# Altium footprint library XDAmpPCBLib.PcbLib: 19 footprints (part 1 of 2)
Each footprint in its own frame and in the unit in brackets; x right, y up, seen from the top. Pads: shape width x height; smd on the part's side, far side on the other; paste and mask are expansions set on the pad; w line width, h text height; cw(c..) or ccw(c..) is an arc to the next point about the centre after c.
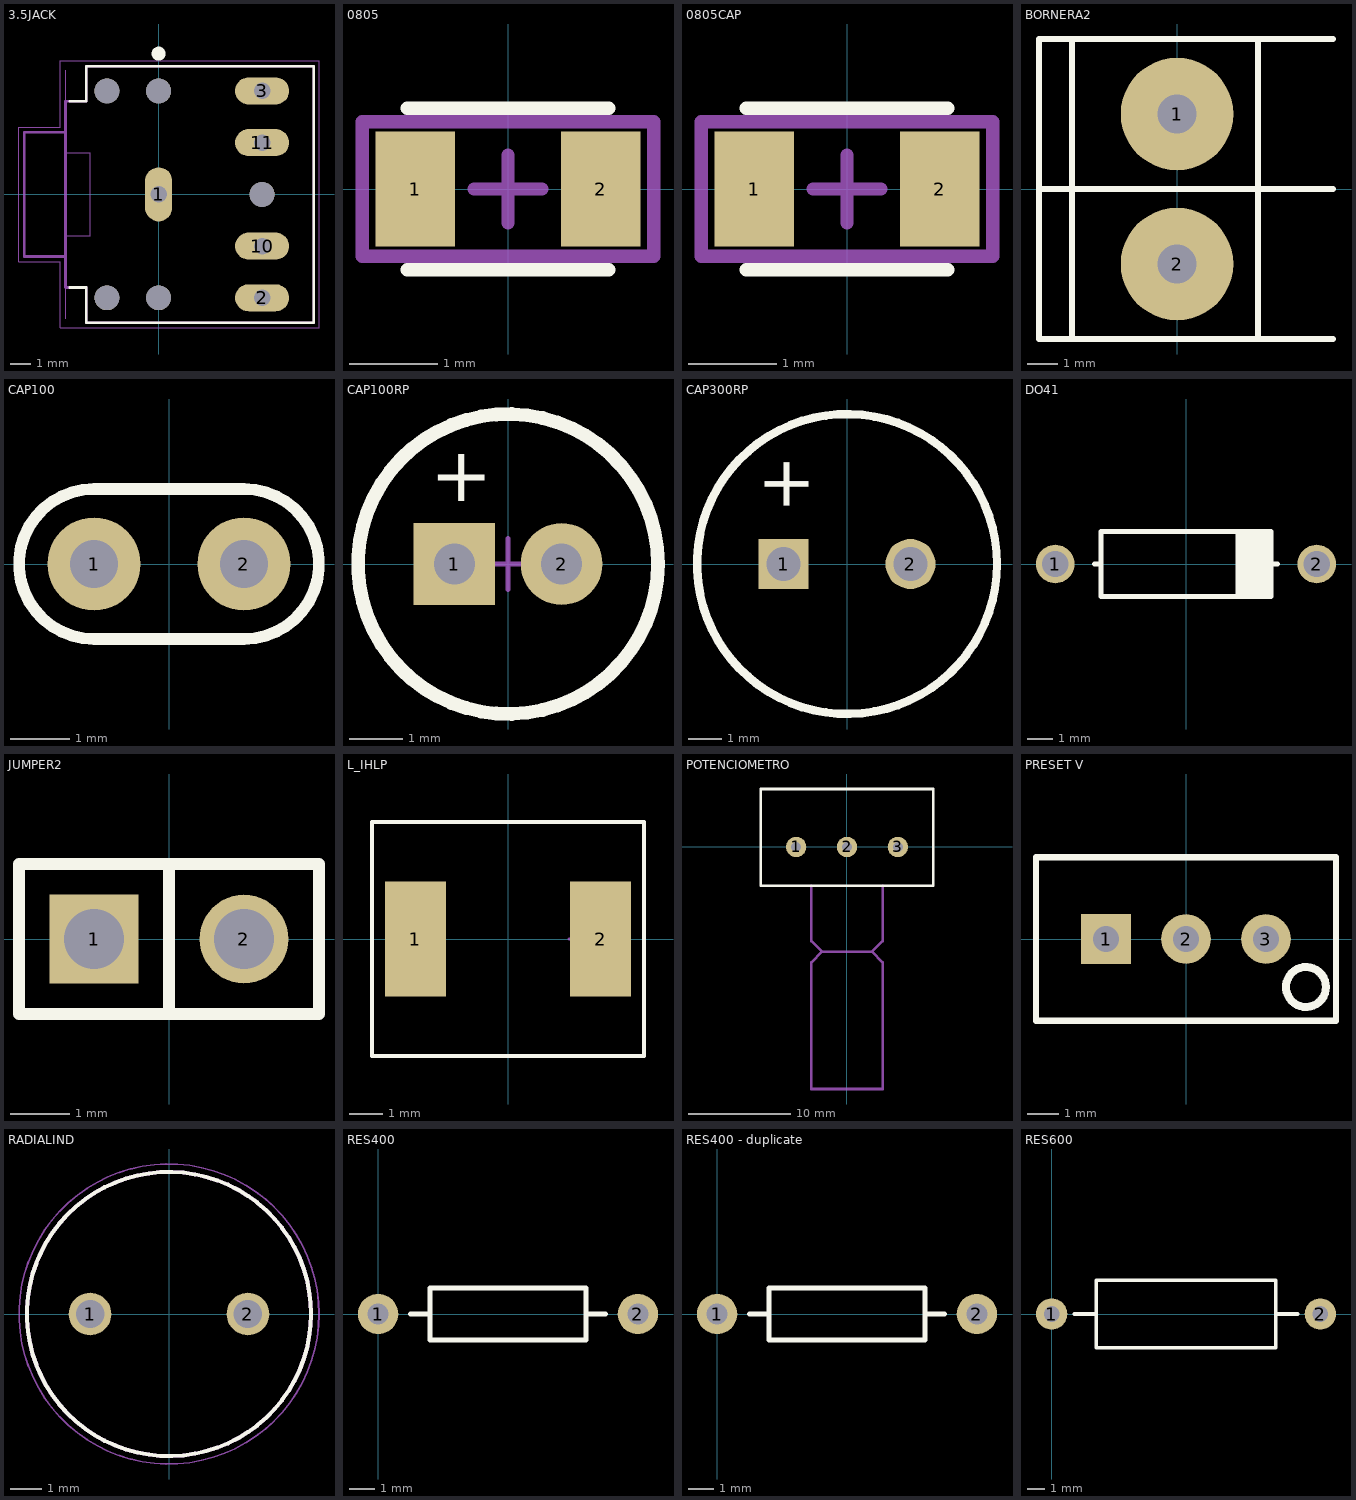
[diagram p0: the footprints below, top view; thin cyan lines are the x and y axes]

## 3.5JACK [mm]
pads (10):
  oval 1.308x2.616 hole 0.8 square: 1(0,0)
  oval 2.616x1.308 hole 0.8 square: 2(5,-5) 3(5,5) 10(5,-2.5) 11(5,2.5)
  round 1.2 hole 1.2 unplated: ""(-2.5,-5) ""(-2.5,5) ""(0,-5) ""(0,5) ""(5,0)
Top Overlay:
  circle w0.34: c0,6.8 r0.17
  lines w0.127: -4.3,-4.5 -3.5,-4.5 -3.5,-6.2 7.5,-6.2 7.5,6.2 -3.5,6.2 -3.5,4.5 -4.3,4.5
Mechanical 1:
  lines w0: -4.5,-6 -4.5,-2 -3.3,-2 -3.3,2 -4.5,2 -4.5,6
Mechanical 13:
  lines w0.127: -4.5,-3 -6.5,-3 -6.5,3 -4.5,3 ; -4.5,-3 -4.5,-4.5 -3.5,-4.5 -3.5,-6.2 7.5,-6.2 7.5,6.2 -3.5,6.2 -3.5,4.5 -4.5,4.5 -4.5,3 ; -4.5,-3 -4.5,3
  text "PCB edge" at -12.501,6.001 h1.02
Mechanical 15:
  lines w0.05: -6.75,-3.25 -4.75,-3.25 -4.75,-6.45 7.75,-6.45 7.75,6.45 -4.75,6.45 -4.75,3.25 -6.75,3.25 -6.75,-3.25
3D body "ST-111.step": height 5.5, standoff -3.3, extent -6.492,-6 7.508,6

## 0805 [mm]
pads (2):
  rect 0.9x1.3 smd: 1(-1.05,0) 2(1.05,0)
Top Overlay:
  lines w0.152: -1.143,-0.914 1.143,-0.914 ; -1.143,0.914 1.143,0.914
Bottom Assembly:
  lines w0.152: -1.651,-0.762 -1.651,0.762 1.651,0.762 1.651,-0.762 -1.651,-0.762
  text ".Designator" at -3.174,-0.212 h0.64
Mechanical 15:
  lines w0.152: -0.381,0 0.381,0 ; 0,-0.381 0,0.381
3D body "RC0805FR-7W1K5L.STEP": height 0.58, standoff -0.02, extent -1,-0.625 1,0.625

## 0805CAP [mm]
pads (2):
  rect 0.9x1.3 smd: 1(-1.05,0) 2(1.05,0)
Top Overlay:
  lines w0.152: -1.143,-0.914 1.143,-0.914 ; -1.143,0.914 1.143,0.914
Bottom Assembly:
  lines w0.152: -1.651,-0.762 1.651,-0.762 1.651,0.762 -1.651,0.762 -1.651,-0.762
  text ".Designator" at -3.174,-0.212 h0.64
Mechanical 15:
  lines w0.152: -0.381,0 0.381,0 ; 0,-0.381 0,0.381
3D body "RC0805FR-7W1K5L.STEP": height 0.58, standoff -0.02, extent -1,-0.625 1,0.625

## BORNERA2 [mm] "Bornera con Tornillos 5mm separación"
pads (2):
  round 3.75 hole 1.3: 1(0,2.5) 2(0,-2.5)
Top Overlay:
  lines w0.2: -4.6,0 5.2,0 ; -3.5,-5 -3.5,5 ; 2.7,-5 2.7,5 ; 5.2,-5 -4.6,-5 -4.6,5 5.2,5
3D body "BORNERA_2.step": height 10, standoff -2.28, extent -3.763,-4.892 3.937,5.607

## CAP100 [mil]
pads (2):
  round 62 hole 32: 1(-50,0) 2(50,0)
Top Overlay:
  lines w7.87: -50,-50 cw(c-50,0) -50,50 50,50 cw(c50,0) 50,-50 -50,-50
3D body "CAP100.step": height 240.98, standoff -70.87, extent -114.93,-33 114.93,33.79

## CAP100RP [mil] "Body diameter 5mm"
pads (2):
  rect 60x60 hole 30: 1(-39.37,0)
  round 60 hole 30: 2(39.37,0)
Top Overlay:
  circle w10: c0,0 r110
  text "+" at -57,46 h40
Mechanical 15:
  lines w3.94: -18.7,0 18.7,0 ; 0,-18.7 0,18.7
3D body "User Library-Cap electro 5x11x2mm.step": height 453.76, standoff -128.81, extent -99.43,-99 99.43,99.85

## CAP300RP [mm]
pads (2):
  rect 1.5x1.5 hole 1.016: 1(-1.905,0)
  round 1.5 hole 1.016: 2(1.905,0)
Top Overlay:
  circle w0.254: c0,0 r4.5
  text "+" at -1.143,1.524 h1.52

## DO41 [mm]
pads (2):
  round 1.5 hole 1.016: 1(-5.08,0) 2(5.08,0)
Top Overlay:
  rectangle: 2.032,-1.27 3.302,1.27
  lines w0.2: -3.556,0 -3.302,0 ; 2.032,-1.27 2.032,1.27 ; 3.302,0 3.556,0 ; -3.302,-1.27 -3.302,1.27 3.302,1.27 3.302,-1.27 -3.302,-1.27
3D body "DO41.step": height 2.03, standoff -3.06, extent -5.461,-1.194 5.461,1.372

## JUMPER2 [mm]
pads (2):
  rect 1.5x1.5 hole 1.016: 1(-1.27,0)
  round 1.5 hole 1.016: 2(1.27,0)
Top Overlay:
  lines w0.2: 0,-1.27 0,1.27 ; -2.54,-1.27 -2.54,1.27 2.54,1.27 2.54,-1.27 -2.54,-1.27
3D body "Jumper SL2.STEP": height 9.5, standoff -2.6, extent -2.46,-1.27 2.54,1.27

## L_IHLP [mm] "Footprint para IHLP2525CZER3R3M11"
height 10
pads (2):
  rect 1.83x3.43 smd: 1(-2.77,0) 2(2.77,0)
Top Overlay:
  lines w0.127: -4.07,-3.5 -4.07,3.5 4.07,3.5 4.07,-3.5 -4.07,-3.5
Mechanical 15:
  lines w0.1: 1.83,0 2.83,0 ; 2.33,-0.5 2.33,0.5
3D body "LPS5015.step": height 1.4, standoff 0, extent -2.438,-2.235 2.362,2.565

## POTENCIOMETRO [mm]
pads (3):
  round 2 hole 1: 1(-5,0) 2(0,0) 3(5,0)
Top Overlay:
  lines w0.254: -8.5,-3.8 8.5,-3.8 8.5,5.7 -8.5,5.7 -8.5,-3.8
Mechanical 1:
  lines w0.254: -3.5,-3.8 -3.5,-9.261 -2.461,-10.3 ; 3.5,-3.8 3.5,-9.261 2.461,-10.3 ; -2.461,-10.3 2.461,-10.3 ; -2.461,-10.3 -3.5,-11.339 -3.5,-23.8 3.5,-23.8 3.5,-11.339 2.461,-10.3
3D body "User Library-Pot.step": height 20.12, standoff -4.5, extent -7.874,-20.526 7.874,5.032

## PRESET V [mil]
pads (3):
  rect 62x62 hole 32: 1(-100,0)
  round 62 hole 32: 2(0,0) 3(100,0)
Top Overlay:
  circle w10: c150,-60 r25
  lines w7.87: -187.5,-102.36 187.5,-102.36 187.5,102.36 -187.5,102.36 -187.5,-102.36
3D body "Preset.step": height 454.72, standoff -251.97, extent -185.2,-95.1 190,95.1

## RADIALIND [mm]
pads (2):
  round 1.35 hole 0.9: 1(-2.5,0) 2(2.5,0)
Top Overlay:
  circle w0.127: c0,0 r4.5
Mechanical 13:
  circle w0.127: c0,0 r4.5
Mechanical 15:
  circle w0.05: c0,0 r4.75
3D body "Inductor.STEP": height 12.5, standoff -6, extent -4.35,-4.35 4.35,4.35

## RES400 [mil]
pads (2):
  round 62 hole 32: 1(0,0) 2(400,0)
Top Overlay:
  lines w7.87: 50,0 80,0 ; 320,0 350,0 ; 80,-40 320,-40 320,40 80,40 80,-40
3D body "RES400.step": height 95.81, standoff -119.69, extent -12,-45 412,46

## RES400 - duplicate [mil]
pads (2):
  round 62 hole 32: 1(0,0) 2(400,0)
Top Overlay:
  lines w7.87: 50,0 80,0 ; 320,0 350,0 ; 80,-40 320,-40 320,40 80,40 80,-40
3D body "RES400.step": height 95.81, standoff -119.69, extent -12,-45 412,46

## RES600 [mil]
pads (2):
  round 70 hole 35: 1(0,0) 2(600,0)
Top Overlay:
  lines w8: 50,0 100,0 ; 500,0 550,0 ; 100,-75 500,-75 500,75 100,75 100,-75
3D body "SW3dPS-5083NW20K00J12AFX-2.STEP": height 141.35, standoff -102.55, extent -15.75,-67.8 615.75,70